# Altium footprint library HIRO-ZX62D-AB-5P8_V.PcbLib: 1 footprints
Each footprint in its own frame and in the unit in brackets; x right, y up, seen from the top. Pads: shape width x height; smd on the part's side, far side on the other; paste and mask are expansions set on the pad; w line width, h text height; cw(c..) or ccw(c..) is an arc to the next point about the centre after c.
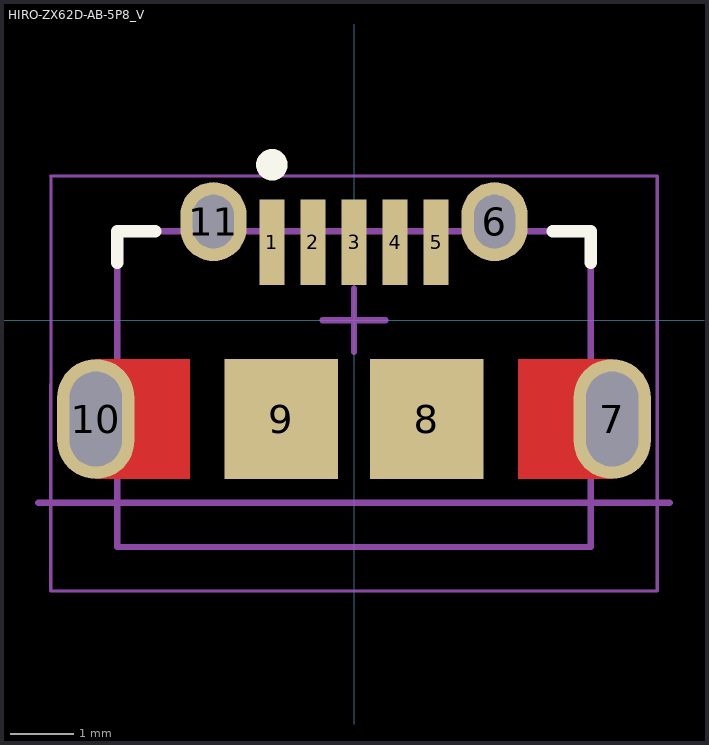
[diagram p0: the footprint, top view; thin cyan lines are the x and y axes]

## HIRO-ZX62D-AB-5P8_V [mm] "USB Micro-AB Connector, 5-Leads, Pitch 0.65mm"
height 2.8
pads (11):
  rect 0.4x1.35 smd: 1(-1.3,1.238) 2(-0.65,1.238) 3(0,1.238) 4(0.65,1.238) 5(1.3,1.238)
  oval 1.05x1.25 hole 0.65 slot 0.85 at 90 deg: 6(2.225,1.563) 11(-2.225,1.563)
  oval 1.225x1.9 hole 0.825 slot 1.5 at 90 deg: 7(4.088,-1.562) 10(-4.088,-1.562)
  rect 1.8x1.9 smd: 8(1.15,-1.562) 9(-1.15,-1.562)
Top Layer:
  rectangle: -4.088,-2.512 -2.6,-0.612
  rectangle: 2.6,-2.512 4.088,-0.612
Top Overlay:
  circle w0.25: c-1.3,2.463 r0.125
  lines w0.2: -3.75,0.91 -3.75,1.412 -3.149,1.412 ; 3.149,1.412 3.75,1.412 3.75,0.91
Mechanical 3:
  lines w0.1: -5,-2.887 5,-2.887
  text "board edge" at -7.112,-2.921 h0.2
Mechanical 13:
  lines w0.1: -3.75,-3.588 -3.75,1.413 3.75,1.413 3.75,-3.587 -3.75,-3.588
Mechanical 15:
  lines w0.05: -4.8,2.288 4.8,2.288 4.8,-4.286 -4.8,-4.286 -4.8,2.288
  lines w0.1: -0.5,0 0.5,0 ; 0,-0.5 0,0.5
3D body: height 2.83, standoff 2.25, extent -3.05,-4.186 3.05,-3.586
3D body: height 0.25, standoff -0.32, extent -3.05,-4.186 3.05,-3.586
3D body: height 1.79, standoff 0.71, extent 3.5,-4.187 4,-3.586
3D body: height 1.79, standoff 0.71, extent -4,-4.187 -3.5,-3.586
3D body: height 0.25, standoff 0, extent -3.25,0.212 3.25,0.543
3D body: height 2.5, standoff -0.01, extent -3.754,0.213 3.757,1.413
3D body: height 0.55, standoff -0.6, extent 3.603,-1.916 4.373,-1.065
3D body: height 0.55, standoff -0.6, extent -4.373,-1.916 -3.603,-1.066
3D body: height 2.51, standoff -0.01, extent -3.756,-3.587 3.757,0.213
3D body: height 0.25, standoff 0, extent -0.15,0.542 0.157,1.685
3D body: height 0.25, standoff 0, extent 0.5,0.542 0.807,1.685
3D body: height 0.25, standoff 0, extent 1.15,0.542 1.457,1.685
3D body: height 0.25, standoff 0, extent -1.45,0.542 -1.143,1.685
3D body: height 0.25, standoff 0, extent -0.8,0.542 -0.493,1.685
3D body: height 2.25, standoff -0.85, extent -2.379,1.262 2.387,1.863
3D body: height 2.5, standoff 2.25, extent -0.967,1.262 0.972,1.862